# Altium footprint library Resistors.PcbLib: 4 footprints
Each footprint in its own frame and in the unit in brackets; x right, y up, seen from the top. Pads: shape width x height; smd on the part's side, far side on the other; paste and mask are expansions set on the pad; w line width, h text height; cw(c..) or ccw(c..) is an arc to the next point about the centre after c.
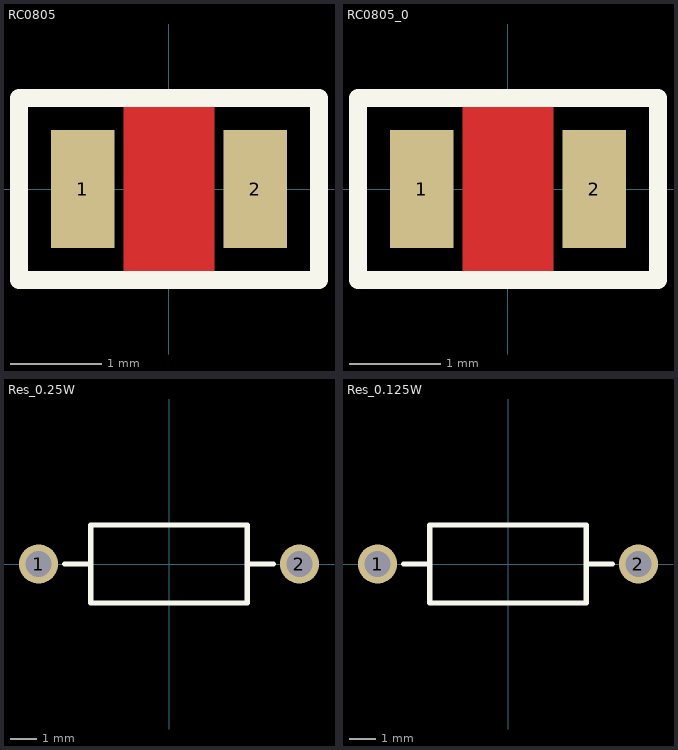
[diagram p0: the footprints below, top view; thin cyan lines are the x and y axes]

## RC0805 [mm]
pads (2):
  rect 0.7x1.3 smd: 1(-0.95,0) 2(0.95,0)
Top Layer:
  pour cut-out: -0.5,0.9 0.5,0.9 0.5,-0.9 -0.5,-0.9
Top Overlay:
  lines w0.2: -1.65,-1 -1.65,0 -1.65,1 1.65,1 1.65,-1 -1.65,-1
3D body "RC0805.STEP": height 0.43, standoff -0.02, extent -1,-0.625 1,0.625

## RC0805_0 [mm]
pads (2):
  rect 0.7x1.3 smd: 1(-0.95,0) 2(0.95,0)
Top Layer:
  pour cut-out: -0.5,0.9 0.5,0.9 0.5,-0.9 -0.5,-0.9
Top Overlay:
  lines w0.2: -1.65,-1 -1.65,0 -1.65,1 1.65,1 1.65,-1 -1.65,-1

## Res_0.25W [mm]
pads (2):
  round 1.5 hole 1: 1(-5,0) 2(5,0)
Top Overlay:
  lines w0.2: -4,0 -3,0 ; 3,0 4,0 ; -3,-1.5 3,-1.5 3,1.5 -3,1.5 -3,-1.5
3D body "RESISTOR1.STEP": height 2.65, standoff -0.5, extent -5.3,-1.142 5.3,1.142

## Res_0.125W [mm]
pads (2):
  round 1.5 hole 1: 1(-5,0) 2(5,0)
Top Overlay:
  lines w0.2: -4,0 -3,0 ; 3,0 4,0 ; -3,-1.5 -3,1.5 3,1.5 3,-1.5 -3,-1.5
3D body "Resistor.STEP": height 3.95, standoff -2.85, extent -5.28,-1.112 5.28,1.112